# EAGLE library part LTC1732 (library linear-technology)
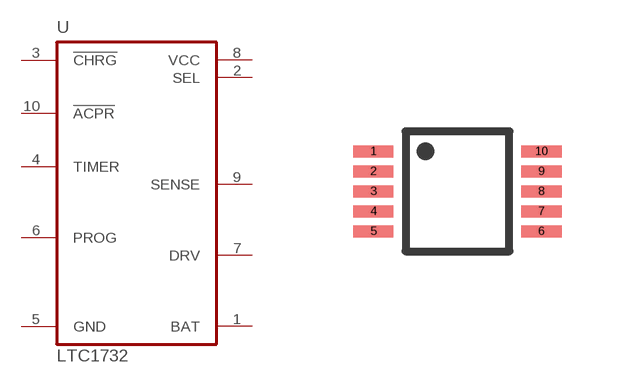
[diagram p17: symbol with the pads of MS10; footprint MS10]

Designator prefix U

## LTC1732  [MS10]
1  BAT
2  SEL
3  !CHRG!
4  TIMER
5  GND
6  PROG
7  DRV
8  VCC
9  SENSE
10  !ACPR!

## Footprint MS10 (pad centres in mm)
smd 1 x 0.3: 1 -2.1,1; 2 -2.1,0.5; 3 -2.1,0; 4 -2.1,-0.5; 5 -2.1,-1; 6 2.1,-1; 7 2.1,-0.5; 8 2.1,0; 9 2.1,0.5; 10 2.1,1